# Altium footprint library HD06-T.PcbLib: 1 footprints
Each footprint in its own frame and in the unit in brackets; x right, y up, seen from the top. Pads: shape width x height; smd on the part's side, far side on the other; paste and mask are expansions set on the pad; w line width, h text height; cw(c..) or ccw(c..) is an arc to the next point about the centre after c.
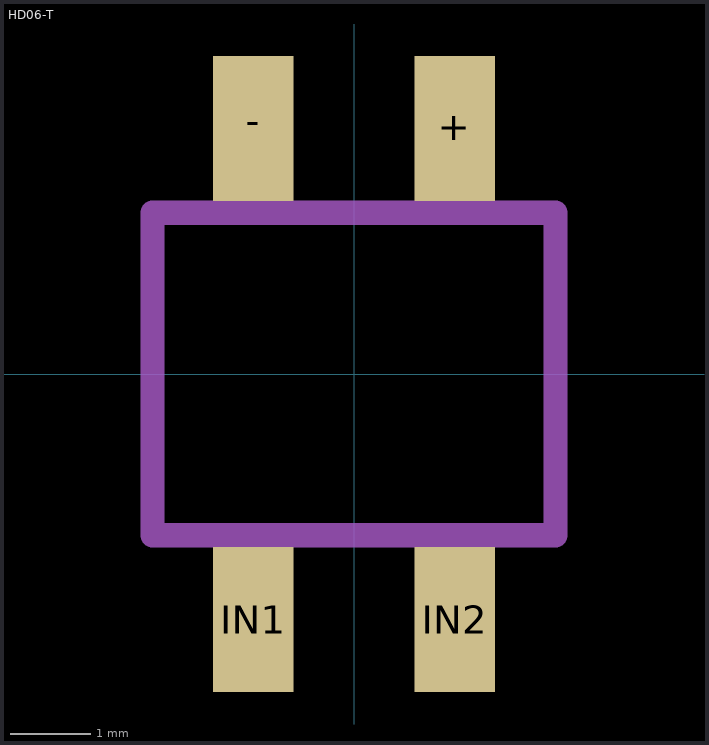
[diagram p0: the footprint, top view; thin cyan lines are the x and y axes]

## HD06-T [mm]
pads (4):
  rect 1x1.8 smd: +(1.25,3.048) -(-1.25,3.048) IN1(-1.25,-3.048) IN2(1.25,-3.048)
Mechanical 13:
  lines w0.3: -2.5,-2 -2.5,2 2.5,2 2.5,-2 -2.5,-2
  text "~" at -1.524,-1.905 h1.5
  text "~" at 1.016,-1.905 h1.5
  text "-" at -1.524,1.143 h1.5
  text "+" at 1.016,1.143 h1.5
  text ".Designator" at -2.159,-1.143 h2.5
3D body: height 2.7, standoff 0, extent -2.65,-2.15 2.65,2.15